# Altium schematic symbol library INDUCTOR 0603.SchLib: 1 symbol
Pins are listed as number, name and electrical type; pins without a type are passive.

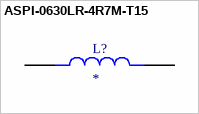
[diagram p0: symbol ASPI-0630LR-4R7M-T15]

## ASPI-0630LR-4R7M-T15
designator L?
4.7uh, 6.5a, 6.5a, Iron Core, Â±20%, Shielded, 35.0m?, 7.2 x 6.65 x 3.0mm, Surface Mount; MP: ASPI-0630LR-4R7M-T15; MF: Abracon LLC; Package: Nonstandard Abracon; Purchase-URL: https://pricing.snapeda.com/search/part/ASPI-0630LR-4R7M-T15/?ref=eda; Check_prices: https://www.snapeda.com/parts/ASPI-0630LR-4R7M-T15/Abracon+LLC/view-part/?ref=eda; SnapEDA_Link: https://www.snapeda.com/parts/ASPI-0630LR-4R7M-T15/Abracon+LLC/view-part/?ref=snap; Price: None; Availability: In Stock; Value: *
footprint IND_ASPI-0630LR-4R7M-T15
pins: 1, 2